# EAGLE library part ADS7951SRGER (library ADS7951SRGER)
12/10/8-Bit, 1 MSPS, 16/12/8/4-Channel, Single-Ended, MicroPower, Serial Interface ADCs Source: Datasheet <http://www.ti.com/lit/gpn/ADS7951>
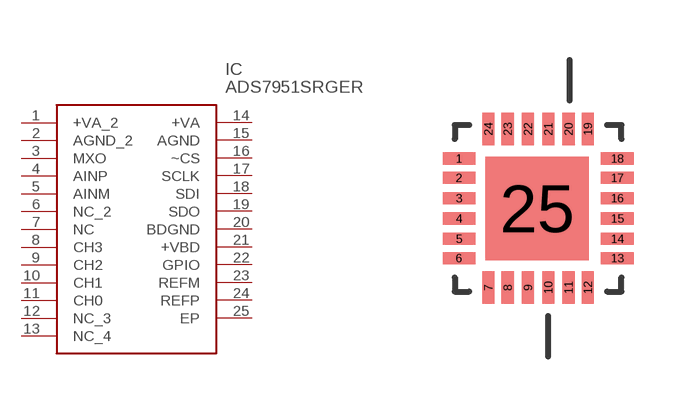
[diagram p0: symbol with the pads of QFN50P400X400X100-25N; footprint QFN50P400X400X100-25N]

Designator prefix IC

## ADS7951SRGER (Arrow_Part_Number: ADS7951SRGER; Arrow_Price-Stock: https://www.arrow.com/en/products/ads7951srger/texas-instruments?utm_currency=USD&region=nac; Description: 12/10/8-Bit, 1 MSPS, 16/12/8/4-Channel, Single-Ended, MicroPower, Serial Interface ADCs; Height: mm; Manufacturer_Name: Texas Instruments; Manufacturer_Part_Number: ADS7951SRGER; Mouser_Part_Number: 595-ADS7951SRGER; Mouser_Price-Stock: https://www.mouser.co.uk/ProductDetail/Texas-Instruments/ADS7951SRGER?qs=DS7Z8uEdLNy%2Fv2qaypk8NQ%3D%3D)  [QFN50P400X400X100-25N]
1  +VA_2
2  AGND_2
3  MXO
4  AINP
5  AINM
6  NC_2
7  NC  nc
8  CH3
9  CH2
10  CH1
11  CH0
12  NC_3
13  NC_4
14  +VA
15  AGND
16  ~CS
17  SCLK
18  SDI
19  SDO
20  BDGND
21  +VBD
22  GPIO
23  REFM
24  REFP
25  EP

## Footprint QFN50P400X400X100-25N (pad centres in mm)
QFN50P400X400X100-25N
smd 0.813 x 0.305: 1 -1.981,1.245; 2 -1.981,0.762; 3 -1.981,0.254; 4 -1.981,-0.254; 5 -1.981,-0.762; 6 -1.981,-1.245; 13 1.981,-1.245; 14 1.981,-0.762; 15 1.981,-0.254; 16 1.981,0.254; 17 1.981,0.762; 18 1.981,1.245
smd 0.305 x 0.813: 7 -1.245,-1.981; 8 -0.762,-1.981; 9 -0.254,-1.981; 10 0.254,-1.981; 11 0.762,-1.981; 12 1.245,-1.981; 19 1.245,1.981; 20 0.762,1.981; 21 0.254,1.981; 22 -0.254,1.981; 23 -0.762,1.981; 24 -1.245,1.981
smd 2.591 x 2.591: 25 -0.025,0